# EAGLE library part THAT4305 (library that-corp)
Analog Engine IC Pre-trimmed
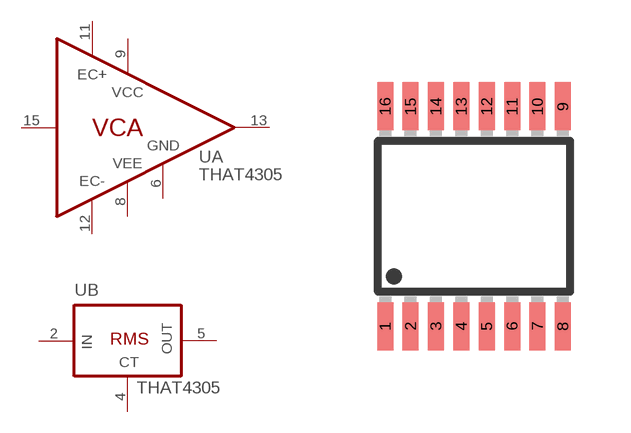
[diagram p5: symbol with the pads of QSOP16; footprint QSOP16]

Designator prefix U; gates B=THAT4305_RMS A=THAT4305_VCA

## THAT4305Q16-U  [QSOP16]
2  B:RMS_IN  in
4  B:CT  pas
5  B:RMS_OUT  out
6  A:GND  pas
8  A:VEE  pwr
9  A:VCC  pwr
11  A:EC+  in
12  A:EC-  in
13  A:OUT  out
15  A:IN  in

## Footprint QSOP16 (pad centres in mm)
QSOP-16
smd 0.4 x 1.2: 1 -2.223,-2.75; 2 -1.588,-2.75; 3 -0.953,-2.75; 4 -0.318,-2.75; 5 0.318,-2.75; 6 0.953,-2.75; 7 1.588,-2.75; 8 2.223,-2.75; 9 2.223,2.75; 10 1.588,2.75; 11 0.953,2.75; 12 0.318,2.75; 13 -0.318,2.75; 14 -0.953,2.75; 15 -1.588,2.75; 16 -2.223,2.75